# Altium footprint library NSC Switcher.PcbLib: 116 footprints (part 7 of 8)
Each footprint in its own frame and in the unit in brackets; x right, y up, seen from the top. Pads: shape width x height; smd on the part's side, far side on the other; paste and mask are expansions set on the pad; w line width, h text height; cw(c..) or ccw(c..) is an arc to the next point about the centre after c.
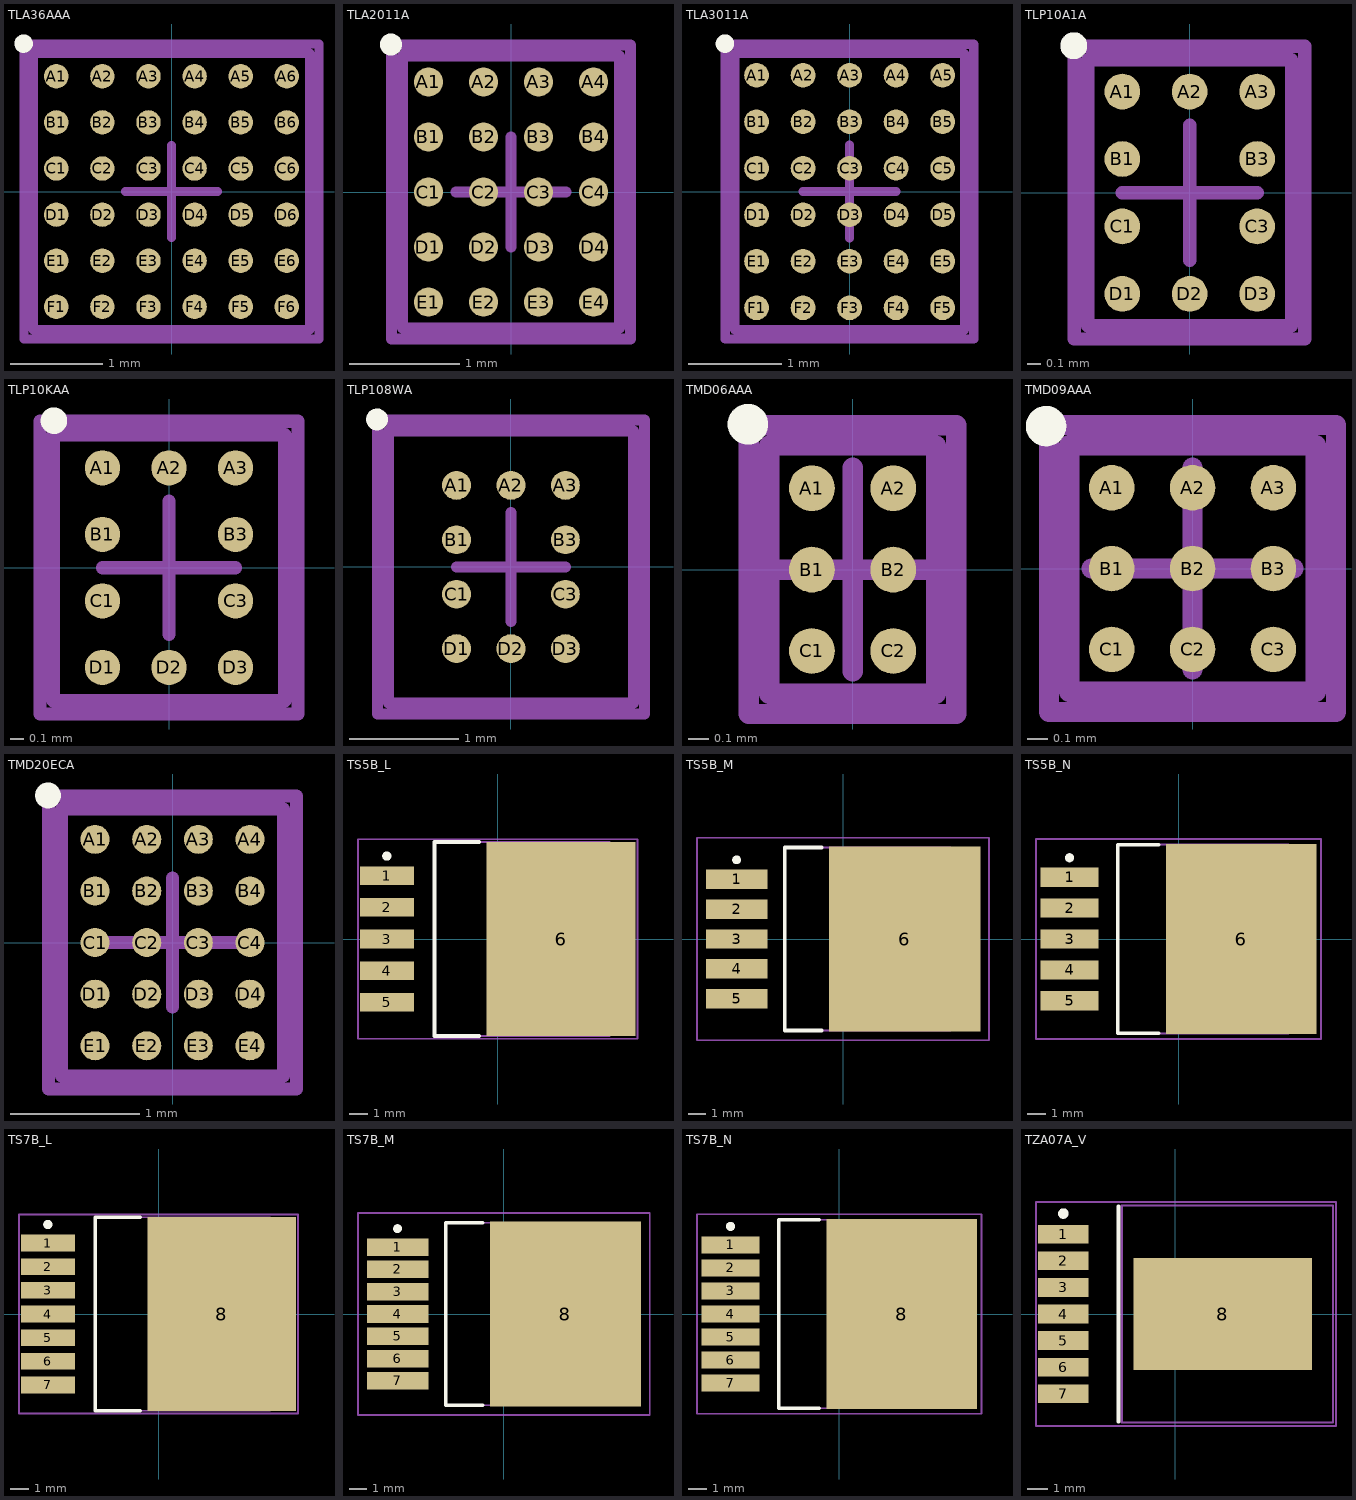
[diagram p6: the footprints below, top view; thin cyan lines are the x and y axes]

## TLA36AAA [mm] "Micro SMD, 36-Leads, Body 3x3mm, Pitch 0.5mm, NSC Recommended"
height 0.68
pads (36):
  round 0.265 smd paste-0.132 mask+0.05: A1(-1.25,1.25) A2(-0.75,1.25) A3(-0.25,1.25) A4(0.25,1.25) A5(0.75,1.25) A6(1.25,1.25) B1(-1.25,0.75) B2(-0.75,0.75) B3(-0.25,0.75) B4(0.25,0.75) B5(0.75,0.75) B6(1.25,0.75) C1(-1.25,0.25) C2(-0.75,0.25) C3(-0.25,0.25) C4(0.25,0.25) C5(0.75,0.25) C6(1.25,0.25) D1(-1.25,-0.25) D2(-0.75,-0.25) D3(-0.25,-0.25) D4(0.25,-0.25) D5(0.75,-0.25) D6(1.25,-0.25) E1(-1.25,-0.75) E2(-0.75,-0.75) E3(-0.25,-0.75) E4(0.25,-0.75) E5(0.75,-0.75) E6(1.25,-0.75) F1(-1.25,-1.25) F2(-0.75,-1.25) F3(-0.25,-1.25) F4(0.25,-1.25) F5(0.75,-1.25) F6(1.25,-1.25)
Top Overlay:
  circle w0.1: c-1.605,1.605 r0.05
Top Paste:
  drawing of 324 lines, arcs and shapes, not listed
Mechanical 13:
  lines w0.1: -1.5,-1.5 1.5,-1.5 1.5,1.5 -1.5,1.5 -1.5,-1.5
Mechanical 15:
  lines w0.1: -0.5,0 0.5,0 ; 0,-0.5 0,0.5 ; -1.6,-1.6 1.6,-1.6 1.6,1.6 -1.6,1.6 -1.6,-1.6
3D body: height 0.68, standoff 0, extent -1.499,-1.499 1.499,1.499

## TLA2011A [mm] "Micro SMD, 20-Leads, Body 2.47x1.97mm, Pitch 0.5mm, NSC Recommended"
height 0.68
pads (20):
  round 0.265 smd paste-0.132 mask+0.05: A1(-0.75,1) A2(-0.25,1) A3(0.25,1) A4(0.75,1) B1(-0.75,0.5) B2(-0.25,0.5) B3(0.25,0.5) B4(0.75,0.5) C1(-0.75,0) C2(-0.25,0) C3(0.25,0) C4(0.75,0) D1(-0.75,-0.5) D2(-0.25,-0.5) D3(0.25,-0.5) D4(0.75,-0.5) E1(-0.75,-1) E2(-0.25,-1) E3(0.25,-1) E4(0.75,-1)
Top Overlay:
  circle w0.1: c-1.09,1.34 r0.05
Top Paste:
  drawing of 180 lines, arcs and shapes, not listed
Mechanical 13:
  lines w0.1: -0.985,-1.235 -0.985,1.235 0.985,1.235 0.985,-1.235 -0.985,-1.235
Mechanical 15:
  lines w0.1: -0.5,0 0.5,0 ; 0,-0.5 0,0.5 ; -1.085,-1.335 -1.085,1.335 1.085,1.335 1.085,-1.335 -1.085,-1.335
3D body: height 0.68, standoff 0, extent -0.984,-1.234 0.984,1.234

## TLA3011A [mm] "Micro SMD, 30-Leads, Body 2.97x2.47mm, Pitch 0.5mm, NSC Recommended"
height 0.68
pads (30):
  round 0.265 smd paste-0.132 mask+0.05: A1(-1,1.25) A2(-0.5,1.25) A3(0,1.25) A4(0.5,1.25) A5(1,1.25) B1(-1,0.75) B2(-0.5,0.75) B3(0,0.75) B4(0.5,0.75) B5(1,0.75) C1(-1,0.25) C2(-0.5,0.25) C3(0,0.25) C4(0.5,0.25) C5(1,0.25) D1(-1,-0.25) D2(-0.5,-0.25) D3(0,-0.25) D4(0.5,-0.25) D5(1,-0.25) E1(-1,-0.75) E2(-0.5,-0.75) E3(0,-0.75) E4(0.5,-0.75) E5(1,-0.75) F1(-1,-1.25) F2(-0.5,-1.25) F3(0,-1.25) F4(0.5,-1.25) F5(1,-1.25)
Top Overlay:
  circle w0.1: c-1.34,1.59 r0.05
Top Paste:
  drawing of 270 lines, arcs and shapes, not listed
Mechanical 13:
  lines w0.1: -1.235,-1.485 1.235,-1.485 1.235,1.485 -1.235,1.485 -1.235,-1.485
Mechanical 15:
  lines w0.1: -0.5,0 0.5,0 ; 0,-0.5 0,0.5 ; -1.335,-1.585 1.335,-1.585 1.335,1.585 -1.335,1.585 -1.335,-1.585
3D body: height 0.68, standoff 0, extent -1.235,-1.49 1.235,1.49

## TLP10A1A [mm] "Micro SMD, 10-Leads, Body 1.97x1.51mm, Pitch 0.5mm, NSC Recommended"
height 0.68
pads (10):
  round 0.265 smd paste-0.132 mask+0.05: A1(-0.5,0.75) A2(0,0.75) A3(0.5,0.75) B1(-0.5,0.25) B3(0.5,0.25) C1(-0.5,-0.25) C3(0.5,-0.25) D1(-0.5,-0.75) D2(0,-0.75) D3(0.5,-0.75)
Top Overlay:
  circle w0.1: c-0.86,1.09 r0.05
Top Paste:
  circle w0.05: c0.45,-0.7 r0.025
  circle w0.05: c0.6,-0.85 r0.025
  circle w0.05: c0.6,-0.7 r0.025
  circle w0.05: c0.45,-0.85 r0.025
  circle w0.05: c-0.075,-0.7 r0.025
  circle w0.05: c0.075,-0.85 r0.025
  circle w0.05: c0.075,-0.7 r0.025
  circle w0.05: c-0.075,-0.85 r0.025
  circle w0.05: c-0.6,-0.7 r0.025
  circle w0.05: c-0.45,-0.85 r0.025
  circle w0.05: c-0.45,-0.7 r0.025
  circle w0.05: c-0.6,-0.85 r0.025
  circle w0.05: c0.45,-0.175 r0.025
  circle w0.05: c0.6,-0.325 r0.025
  circle w0.05: c0.6,-0.175 r0.025
  circle w0.05: c0.45,-0.325 r0.025
  circle w0.05: c-0.6,-0.175 r0.025
  circle w0.05: c-0.45,-0.325 r0.025
  circle w0.05: c-0.45,-0.175 r0.025
  circle w0.05: c-0.6,-0.325 r0.025
  circle w0.05: c0.45,0.325 r0.025
  circle w0.05: c0.6,0.175 r0.025
  circle w0.05: c0.6,0.325 r0.025
  circle w0.05: c0.45,0.175 r0.025
  circle w0.05: c-0.6,0.325 r0.025
  circle w0.05: c-0.45,0.175 r0.025
  circle w0.05: c-0.45,0.325 r0.025
  circle w0.05: c-0.6,0.175 r0.025
  circle w0.05: c0.45,0.85 r0.025
  circle w0.05: c0.6,0.7 r0.025
  circle w0.05: c0.6,0.85 r0.025
  circle w0.05: c0.45,0.7 r0.025
  circle w0.05: c-0.075,0.85 r0.025
  circle w0.05: c0.075,0.7 r0.025
  circle w0.05: c0.075,0.85 r0.025
  circle w0.05: c-0.075,0.7 r0.025
  circle w0.05: c-0.6,0.85 r0.025
  circle w0.05: c-0.45,0.7 r0.025
  circle w0.05: c-0.45,0.85 r0.025
  circle w0.05: c-0.6,0.7 r0.025
  region: 0.6,-0.85 0.45,-0.85 0.45,-0.9 0.6,-0.9
  region: 0.6,-0.7 0.6,-0.85 0.65,-0.85 0.65,-0.7
  rectangle: 0.45,-0.7 0.6,-0.65
  region: 0.45,-0.85 0.45,-0.7 0.4,-0.7 0.4,-0.85
  region: 0.45,-0.7 0.45,-0.85 0.6,-0.85 0.6,-0.7
  region: 0.075,-0.85 -0.075,-0.85 -0.075,-0.9 0.075,-0.9
  region: 0.075,-0.7 0.075,-0.85 0.125,-0.85 0.125,-0.7
  rectangle: -0.075,-0.7 0.075,-0.65
  region: -0.075,-0.85 -0.075,-0.7 -0.125,-0.7 -0.125,-0.85
  region: -0.075,-0.7 -0.075,-0.85 0.075,-0.85 0.075,-0.7
  region: -0.45,-0.85 -0.6,-0.85 -0.6,-0.9 -0.45,-0.9
  region: -0.45,-0.7 -0.45,-0.85 -0.4,-0.85 -0.4,-0.7
  rectangle: -0.6,-0.7 -0.45,-0.65
  region: -0.6,-0.85 -0.6,-0.7 -0.65,-0.7 -0.65,-0.85
  region: -0.6,-0.7 -0.6,-0.85 -0.45,-0.85 -0.45,-0.7
  region: 0.6,-0.325 0.45,-0.325 0.45,-0.375 0.6,-0.375
  region: 0.6,-0.175 0.6,-0.325 0.65,-0.325 0.65,-0.175
  rectangle: 0.45,-0.175 0.6,-0.125
  region: 0.45,-0.325 0.45,-0.175 0.4,-0.175 0.4,-0.325
  region: 0.45,-0.175 0.45,-0.325 0.6,-0.325 0.6,-0.175
  region: -0.45,-0.325 -0.6,-0.325 -0.6,-0.375 -0.45,-0.375
  region: -0.45,-0.175 -0.45,-0.325 -0.4,-0.325 -0.4,-0.175
  rectangle: -0.6,-0.175 -0.45,-0.125
  region: -0.6,-0.325 -0.6,-0.175 -0.65,-0.175 -0.65,-0.325
  region: -0.6,-0.175 -0.6,-0.325 -0.45,-0.325 -0.45,-0.175
  region: 0.6,0.175 0.45,0.175 0.45,0.125 0.6,0.125
  region: 0.6,0.325 0.6,0.175 0.65,0.175 0.65,0.325
  rectangle: 0.45,0.325 0.6,0.375
  region: 0.45,0.175 0.45,0.325 0.4,0.325 0.4,0.175
  region: 0.45,0.325 0.45,0.175 0.6,0.175 0.6,0.325
  region: -0.45,0.175 -0.6,0.175 -0.6,0.125 -0.45,0.125
  region: -0.45,0.325 -0.45,0.175 -0.4,0.175 -0.4,0.325
  rectangle: -0.6,0.325 -0.45,0.375
  region: -0.6,0.175 -0.6,0.325 -0.65,0.325 -0.65,0.175
  region: -0.6,0.325 -0.6,0.175 -0.45,0.175 -0.45,0.325
  region: 0.6,0.7 0.45,0.7 0.45,0.65 0.6,0.65
  region: 0.6,0.85 0.6,0.7 0.65,0.7 0.65,0.85
  rectangle: 0.45,0.85 0.6,0.9
  region: 0.45,0.7 0.45,0.85 0.4,0.85 0.4,0.7
  region: 0.45,0.85 0.45,0.7 0.6,0.7 0.6,0.85
  region: 0.075,0.7 -0.075,0.7 -0.075,0.65 0.075,0.65
  region: 0.075,0.85 0.075,0.7 0.125,0.7 0.125,0.85
  rectangle: -0.075,0.85 0.075,0.9
  region: -0.075,0.7 -0.075,0.85 -0.125,0.85 -0.125,0.7
  region: -0.075,0.85 -0.075,0.7 0.075,0.7 0.075,0.85
  region: -0.45,0.7 -0.6,0.7 -0.6,0.65 -0.45,0.65
  region: -0.45,0.85 -0.45,0.7 -0.4,0.7 -0.4,0.85
  rectangle: -0.6,0.85 -0.45,0.9
  region: -0.6,0.7 -0.6,0.85 -0.65,0.85 -0.65,0.7
  region: -0.6,0.85 -0.6,0.7 -0.45,0.7 -0.45,0.85
Mechanical 13:
  lines w0.1: -0.755,-0.985 0.755,-0.985 0.755,0.985 -0.755,0.985 -0.755,-0.985
Mechanical 15:
  lines w0.1: -0.5,0 0.5,0 ; 0,-0.5 0,0.5 ; -0.855,-1.085 0.855,-1.085 0.855,1.085 -0.855,1.085 -0.855,-1.085
3D body: height 0.68, standoff 0, extent -0.76,-0.985 0.76,0.985

## TLP10KAA [mm] "Micro SMD, 10-Leads, Body 2x1.74mm, Pitch 0.5mm, NSC Recommended"
height 0.68
pads (10):
  round 0.265 smd paste-0.132 mask+0.05: A1(-0.5,0.75) A2(0,0.75) A3(0.5,0.75) B1(-0.5,0.25) B3(0.5,0.25) C1(-0.5,-0.25) C3(0.5,-0.25) D1(-0.5,-0.75) D2(0,-0.75) D3(0.5,-0.75)
Top Overlay:
  circle w0.1: c-0.865,1.105 r0.05
Top Paste:
  circle w0.05: c-0.6,0.7 r0.025
  circle w0.05: c-0.45,0.85 r0.025
  circle w0.05: c-0.6,0.85 r0.025
  circle w0.05: c-0.45,0.7 r0.025
  circle w0.05: c0.45,0.85 r0.025
  circle w0.05: c0.6,0.7 r0.025
  circle w0.05: c0.6,0.85 r0.025
  circle w0.05: c0.45,0.7 r0.025
  circle w0.05: c0.6,-0.7 r0.025
  circle w0.05: c0.45,-0.85 r0.025
  circle w0.05: c0.6,-0.85 r0.025
  circle w0.05: c0.45,-0.7 r0.025
  circle w0.05: c-0.45,-0.85 r0.025
  circle w0.05: c-0.6,-0.7 r0.025
  circle w0.05: c-0.6,-0.85 r0.025
  circle w0.05: c-0.45,-0.7 r0.025
  circle w0.05: c-0.075,0.7 r0.025
  circle w0.05: c0.075,0.85 r0.025
  circle w0.05: c0.075,0.7 r0.025
  circle w0.05: c-0.075,0.85 r0.025
  circle w0.05: c-0.45,0.175 r0.025
  circle w0.05: c-0.6,0.325 r0.025
  circle w0.05: c-0.45,0.325 r0.025
  circle w0.05: c-0.6,0.175 r0.025
  circle w0.05: c-0.45,-0.325 r0.025
  circle w0.05: c-0.6,-0.175 r0.025
  circle w0.05: c-0.45,-0.175 r0.025
  circle w0.05: c-0.6,-0.325 r0.025
  circle w0.05: c0.075,-0.7 r0.025
  circle w0.05: c-0.075,-0.85 r0.025
  circle w0.05: c-0.075,-0.7 r0.025
  circle w0.05: c0.075,-0.85 r0.025
  circle w0.05: c0.45,-0.175 r0.025
  circle w0.05: c0.6,-0.325 r0.025
  circle w0.05: c0.45,-0.325 r0.025
  circle w0.05: c0.6,-0.175 r0.025
  circle w0.05: c0.45,0.325 r0.025
  circle w0.05: c0.6,0.175 r0.025
  circle w0.05: c0.45,0.175 r0.025
  circle w0.05: c0.6,0.325 r0.025
  region: -0.45,0.85 -0.45,0.7 -0.4,0.7 -0.4,0.85
  rectangle: -0.6,0.85 -0.45,0.9
  region: -0.6,0.7 -0.6,0.85 -0.65,0.85 -0.65,0.7
  region: -0.45,0.7 -0.6,0.7 -0.6,0.65 -0.45,0.65
  rectangle: -0.6,0.7 -0.45,0.85
  region: 0.6,0.7 0.45,0.7 0.45,0.65 0.6,0.65
  region: 0.6,0.85 0.6,0.7 0.65,0.7 0.65,0.85
  rectangle: 0.45,0.85 0.6,0.9
  region: 0.45,0.7 0.45,0.85 0.4,0.85 0.4,0.7
  region: 0.45,0.85 0.45,0.7 0.6,0.7 0.6,0.85
  region: 0.45,-0.85 0.45,-0.7 0.4,-0.7 0.4,-0.85
  region: 0.6,-0.85 0.45,-0.85 0.45,-0.9 0.6,-0.9
  region: 0.6,-0.7 0.6,-0.85 0.65,-0.85 0.65,-0.7
  rectangle: 0.45,-0.7 0.6,-0.65
  region: 0.6,-0.7 0.45,-0.7 0.45,-0.85 0.6,-0.85
  rectangle: -0.6,-0.7 -0.45,-0.65
  region: -0.6,-0.85 -0.6,-0.7 -0.65,-0.7 -0.65,-0.85
  region: -0.45,-0.85 -0.6,-0.85 -0.6,-0.9 -0.45,-0.9
  region: -0.45,-0.7 -0.45,-0.85 -0.4,-0.85 -0.4,-0.7
  region: -0.45,-0.85 -0.45,-0.7 -0.6,-0.7 -0.6,-0.85
  region: -0.075,0.85 -0.075,0.7 0.075,0.7 0.075,0.85
  region: -0.075,0.7 -0.075,0.85 -0.125,0.85 -0.125,0.7
  rectangle: -0.075,0.85 0.075,0.9
  region: 0.075,0.85 0.075,0.7 0.125,0.7 0.125,0.85
  region: 0.075,0.7 -0.075,0.7 -0.075,0.65 0.075,0.65
  rectangle: -0.6,0.175 -0.45,0.325
  region: -0.45,0.175 -0.6,0.175 -0.6,0.125 -0.45,0.125
  region: -0.6,0.175 -0.6,0.325 -0.65,0.325 -0.65,0.175
  rectangle: -0.6,0.325 -0.45,0.375
  region: -0.45,0.325 -0.45,0.175 -0.4,0.175 -0.4,0.325
  rectangle: -0.6,-0.325 -0.45,-0.175
  region: -0.45,-0.325 -0.6,-0.325 -0.6,-0.375 -0.45,-0.375
  region: -0.6,-0.325 -0.6,-0.175 -0.65,-0.175 -0.65,-0.325
  rectangle: -0.6,-0.175 -0.45,-0.125
  region: -0.45,-0.175 -0.45,-0.325 -0.4,-0.325 -0.4,-0.175
  region: 0.075,-0.85 0.075,-0.7 -0.075,-0.7 -0.075,-0.85
  region: 0.075,-0.7 0.075,-0.85 0.125,-0.85 0.125,-0.7
  region: 0.075,-0.85 -0.075,-0.85 -0.075,-0.9 0.075,-0.9
  region: -0.075,-0.85 -0.075,-0.7 -0.125,-0.7 -0.125,-0.85
  rectangle: -0.075,-0.7 0.075,-0.65
  region: 0.6,-0.175 0.45,-0.175 0.45,-0.325 0.6,-0.325
  rectangle: 0.45,-0.175 0.6,-0.125
  region: 0.6,-0.175 0.6,-0.325 0.65,-0.325 0.65,-0.175
  region: 0.6,-0.325 0.45,-0.325 0.45,-0.375 0.6,-0.375
  region: 0.45,-0.325 0.45,-0.175 0.4,-0.175 0.4,-0.325
  region: 0.6,0.325 0.45,0.325 0.45,0.175 0.6,0.175
  rectangle: 0.45,0.325 0.6,0.375
  region: 0.6,0.325 0.6,0.175 0.65,0.175 0.65,0.325
  region: 0.6,0.175 0.45,0.175 0.45,0.125 0.6,0.125
  region: 0.45,0.175 0.45,0.325 0.4,0.325 0.4,0.175
Mechanical 13:
  lines w0.1: -0.87,-1 -0.87,1 0.87,1 0.87,-1 -0.87,-1
Mechanical 15:
  lines w0.1: -0.5,0 0.5,0 ; 0,-0.5 0,0.5 ; -0.97,-1.1 -0.97,1.1 0.97,1.1 0.97,-1.1 -0.97,-1.1
3D body: height 0.68, standoff 0, extent -0.759,-0.999 0.759,0.999

## TLP108WA [mm] "Micro SMD, 10-Leads, Body 2.5x2.25mm, Pitch 0.5mm, NSC Recommended"
height 0.68
pads (10):
  round 0.265 smd paste-0.132 mask+0.05: A1(-0.5,0.75) A2(0,0.75) A3(0.5,0.75) B1(-0.5,0.25) B3(0.5,0.25) C1(-0.5,-0.25) C3(0.5,-0.25) D1(-0.5,-0.75) D2(0,-0.75) D3(0.5,-0.75)
Top Overlay:
  circle w0.1: c-1.23,1.355 r0.05
Top Paste:
  circle w0.05: c0.45,-0.7 r0.025
  circle w0.05: c0.6,-0.85 r0.025
  circle w0.05: c0.6,-0.7 r0.025
  circle w0.05: c0.45,-0.85 r0.025
  circle w0.05: c-0.075,-0.7 r0.025
  circle w0.05: c0.075,-0.85 r0.025
  circle w0.05: c0.075,-0.7 r0.025
  circle w0.05: c-0.075,-0.85 r0.025
  circle w0.05: c-0.6,-0.7 r0.025
  circle w0.05: c-0.45,-0.85 r0.025
  circle w0.05: c-0.45,-0.7 r0.025
  circle w0.05: c-0.6,-0.85 r0.025
  circle w0.05: c0.45,-0.175 r0.025
  circle w0.05: c0.6,-0.325 r0.025
  circle w0.05: c0.6,-0.175 r0.025
  circle w0.05: c0.45,-0.325 r0.025
  circle w0.05: c-0.6,-0.175 r0.025
  circle w0.05: c-0.45,-0.325 r0.025
  circle w0.05: c-0.45,-0.175 r0.025
  circle w0.05: c-0.6,-0.325 r0.025
  circle w0.05: c0.45,0.325 r0.025
  circle w0.05: c0.6,0.175 r0.025
  circle w0.05: c0.6,0.325 r0.025
  circle w0.05: c0.45,0.175 r0.025
  circle w0.05: c-0.6,0.325 r0.025
  circle w0.05: c-0.45,0.175 r0.025
  circle w0.05: c-0.45,0.325 r0.025
  circle w0.05: c-0.6,0.175 r0.025
  circle w0.05: c0.45,0.85 r0.025
  circle w0.05: c0.6,0.7 r0.025
  circle w0.05: c0.6,0.85 r0.025
  circle w0.05: c0.45,0.7 r0.025
  circle w0.05: c-0.075,0.85 r0.025
  circle w0.05: c0.075,0.7 r0.025
  circle w0.05: c0.075,0.85 r0.025
  circle w0.05: c-0.075,0.7 r0.025
  circle w0.05: c-0.6,0.85 r0.025
  circle w0.05: c-0.45,0.7 r0.025
  circle w0.05: c-0.45,0.85 r0.025
  circle w0.05: c-0.6,0.7 r0.025
  region: 0.6,-0.85 0.45,-0.85 0.45,-0.9 0.6,-0.9
  region: 0.6,-0.7 0.6,-0.85 0.65,-0.85 0.65,-0.7
  rectangle: 0.45,-0.7 0.6,-0.65
  region: 0.45,-0.85 0.45,-0.7 0.4,-0.7 0.4,-0.85
  region: 0.45,-0.7 0.45,-0.85 0.6,-0.85 0.6,-0.7
  region: 0.075,-0.85 -0.075,-0.85 -0.075,-0.9 0.075,-0.9
  region: 0.075,-0.7 0.075,-0.85 0.125,-0.85 0.125,-0.7
  rectangle: -0.075,-0.7 0.075,-0.65
  region: -0.075,-0.85 -0.075,-0.7 -0.125,-0.7 -0.125,-0.85
  region: -0.075,-0.7 -0.075,-0.85 0.075,-0.85 0.075,-0.7
  region: -0.45,-0.85 -0.6,-0.85 -0.6,-0.9 -0.45,-0.9
  region: -0.45,-0.7 -0.45,-0.85 -0.4,-0.85 -0.4,-0.7
  rectangle: -0.6,-0.7 -0.45,-0.65
  region: -0.6,-0.85 -0.6,-0.7 -0.65,-0.7 -0.65,-0.85
  region: -0.6,-0.7 -0.6,-0.85 -0.45,-0.85 -0.45,-0.7
  region: 0.6,-0.325 0.45,-0.325 0.45,-0.375 0.6,-0.375
  region: 0.6,-0.175 0.6,-0.325 0.65,-0.325 0.65,-0.175
  rectangle: 0.45,-0.175 0.6,-0.125
  region: 0.45,-0.325 0.45,-0.175 0.4,-0.175 0.4,-0.325
  region: 0.45,-0.175 0.45,-0.325 0.6,-0.325 0.6,-0.175
  region: -0.45,-0.325 -0.6,-0.325 -0.6,-0.375 -0.45,-0.375
  region: -0.45,-0.175 -0.45,-0.325 -0.4,-0.325 -0.4,-0.175
  rectangle: -0.6,-0.175 -0.45,-0.125
  region: -0.6,-0.325 -0.6,-0.175 -0.65,-0.175 -0.65,-0.325
  region: -0.6,-0.175 -0.6,-0.325 -0.45,-0.325 -0.45,-0.175
  region: 0.6,0.175 0.45,0.175 0.45,0.125 0.6,0.125
  region: 0.6,0.325 0.6,0.175 0.65,0.175 0.65,0.325
  rectangle: 0.45,0.325 0.6,0.375
  region: 0.45,0.175 0.45,0.325 0.4,0.325 0.4,0.175
  region: 0.45,0.325 0.45,0.175 0.6,0.175 0.6,0.325
  region: -0.45,0.175 -0.6,0.175 -0.6,0.125 -0.45,0.125
  region: -0.45,0.325 -0.45,0.175 -0.4,0.175 -0.4,0.325
  rectangle: -0.6,0.325 -0.45,0.375
  region: -0.6,0.175 -0.6,0.325 -0.65,0.325 -0.65,0.175
  region: -0.6,0.325 -0.6,0.175 -0.45,0.175 -0.45,0.325
  region: 0.6,0.7 0.45,0.7 0.45,0.65 0.6,0.65
  region: 0.6,0.85 0.6,0.7 0.65,0.7 0.65,0.85
  rectangle: 0.45,0.85 0.6,0.9
  region: 0.45,0.7 0.45,0.85 0.4,0.85 0.4,0.7
  region: 0.45,0.85 0.45,0.7 0.6,0.7 0.6,0.85
  region: 0.075,0.7 -0.075,0.7 -0.075,0.65 0.075,0.65
  region: 0.075,0.85 0.075,0.7 0.125,0.7 0.125,0.85
  rectangle: -0.075,0.85 0.075,0.9
  region: -0.075,0.7 -0.075,0.85 -0.125,0.85 -0.125,0.7
  region: -0.075,0.85 -0.075,0.7 0.075,0.7 0.075,0.85
  region: -0.45,0.7 -0.6,0.7 -0.6,0.65 -0.45,0.65
  region: -0.45,0.85 -0.45,0.7 -0.4,0.7 -0.4,0.85
  rectangle: -0.6,0.85 -0.45,0.9
  region: -0.6,0.7 -0.6,0.85 -0.65,0.85 -0.65,0.7
  region: -0.6,0.85 -0.6,0.7 -0.45,0.7 -0.45,0.85
Mechanical 13:
  lines w0.1: -1.125,-1.25 1.125,-1.25 1.125,1.25 -1.125,1.25 -1.125,-1.25
Mechanical 15:
  lines w0.1: -0.5,0 0.5,0 ; 0,-0.5 0,0.5 ; -1.225,-1.35 1.225,-1.35 1.225,1.35 -1.225,1.35 -1.225,-1.35
3D body: height 0.68, standoff 0, extent -1.125,-1.255 1.125,1.255

## TMD06AAA [mm] "Micro SMD, 6-Leads, Body 1.22x0.82mm, Pitch 0.4mm, NSC Recommended"
height 0.68
pads (6):
  round 0.225 smd paste-0.112 mask+0.05: A1(-0.2,0.4) A2(0.2,0.4) B1(-0.2,0) B2(0.2,0) C1(-0.2,-0.4) C2(0.2,-0.4)
Top Overlay:
  circle w0.1: c-0.515,0.715 r0.05
Top Paste:
  circle w0.05: c-0.15,0.5 r0.025
  circle w0.05: c-0.3,0.35 r0.025
  circle w0.05: c-0.3,0.5 r0.025
  circle w0.05: c-0.15,0.35 r0.025
  circle w0.05: c0.3,0.5 r0.025
  circle w0.05: c0.15,0.35 r0.025
  circle w0.05: c0.15,0.5 r0.025
  circle w0.05: c0.3,0.35 r0.025
  circle w0.05: c-0.15,0.075 r0.025
  circle w0.05: c-0.3,-0.075 r0.025
  circle w0.05: c-0.3,0.075 r0.025
  circle w0.05: c-0.15,-0.075 r0.025
  circle w0.05: c0.3,0.075 r0.025
  circle w0.05: c0.15,-0.075 r0.025
  circle w0.05: c0.15,0.075 r0.025
  circle w0.05: c0.3,-0.075 r0.025
  circle w0.05: c-0.15,-0.35 r0.025
  circle w0.05: c-0.3,-0.5 r0.025
  circle w0.05: c-0.3,-0.35 r0.025
  circle w0.05: c-0.15,-0.5 r0.025
  circle w0.05: c0.3,-0.35 r0.025
  circle w0.05: c0.15,-0.5 r0.025
  circle w0.05: c0.15,-0.35 r0.025
  circle w0.05: c0.3,-0.5 r0.025
  rectangle: -0.3,0.3 -0.15,0.35
  region: -0.35,0.5 -0.35,0.35 -0.3,0.35 -0.3,0.5
  region: -0.15,0.55 -0.3,0.55 -0.3,0.5 -0.15,0.5
  region: -0.1,0.35 -0.1,0.5 -0.15,0.5 -0.15,0.35
  region: -0.3,0.5 -0.3,0.35 -0.15,0.35 -0.15,0.5
  rectangle: 0.15,0.3 0.3,0.35
  region: 0.1,0.5 0.1,0.35 0.15,0.35 0.15,0.5
  region: 0.3,0.55 0.15,0.55 0.15,0.5 0.3,0.5
  region: 0.35,0.35 0.35,0.5 0.3,0.5 0.3,0.35
  region: 0.15,0.5 0.15,0.35 0.3,0.35 0.3,0.5
  rectangle: -0.3,-0.125 -0.15,-0.075
  region: -0.35,0.075 -0.35,-0.075 -0.3,-0.075 -0.3,0.075
  region: -0.15,0.125 -0.3,0.125 -0.3,0.075 -0.15,0.075
  region: -0.1,-0.075 -0.1,0.075 -0.15,0.075 -0.15,-0.075
  region: -0.3,0.075 -0.3,-0.075 -0.15,-0.075 -0.15,0.075
  rectangle: 0.15,-0.125 0.3,-0.075
  region: 0.1,0.075 0.1,-0.075 0.15,-0.075 0.15,0.075
  region: 0.3,0.125 0.15,0.125 0.15,0.075 0.3,0.075
  region: 0.35,-0.075 0.35,0.075 0.3,0.075 0.3,-0.075
  region: 0.15,0.075 0.15,-0.075 0.3,-0.075 0.3,0.075
  rectangle: -0.3,-0.55 -0.15,-0.5
  region: -0.35,-0.35 -0.35,-0.5 -0.3,-0.5 -0.3,-0.35
  region: -0.15,-0.3 -0.3,-0.3 -0.3,-0.35 -0.15,-0.35
  region: -0.1,-0.5 -0.1,-0.35 -0.15,-0.35 -0.15,-0.5
  region: -0.3,-0.35 -0.3,-0.5 -0.15,-0.5 -0.15,-0.35
  rectangle: 0.15,-0.55 0.3,-0.5
  region: 0.1,-0.35 0.1,-0.5 0.15,-0.5 0.15,-0.35
  region: 0.3,-0.3 0.15,-0.3 0.15,-0.35 0.3,-0.35
  region: 0.35,-0.5 0.35,-0.35 0.3,-0.35 0.3,-0.5
  region: 0.15,-0.35 0.15,-0.5 0.3,-0.5 0.3,-0.35
Mechanical 13:
  lines w0.1: -0.41,-0.61 -0.41,0.61 0.41,0.61 0.41,-0.61 -0.41,-0.61
Mechanical 15:
  lines w0.1: -0.5,0 0.5,0 ; 0,-0.5 0,0.5 ; -0.51,-0.71 -0.51,0.71 0.51,0.71 0.51,-0.71 -0.51,-0.71
3D body: height 0.68, standoff 0, extent -0.41,-0.61 0.41,0.61

## TMD09AAA [mm] "Micro SMD, 9-Leads, Body 1.22x1.22mm, Pitch 0.4mm, NSC Recommended"
height 0.68
pads (9):
  round 0.225 smd paste-0.112 mask+0.05: A1(-0.4,0.4) A2(0,0.4) A3(0.4,0.4) B1(-0.4,0) B2(0,0) B3(0.4,0) C1(-0.4,-0.4) C2(0,-0.4) C3(0.4,-0.4)
Top Overlay:
  circle w0.1: c-0.725,0.705 r0.05
Top Paste:
  circle w0.05: c0.35,-0.075 r0.025
  circle w0.05: c0.5,0.075 r0.025
  circle w0.05: c0.35,0.075 r0.025
  circle w0.05: c0.5,-0.075 r0.025
  circle w0.05: c-0.075,-0.35 r0.025
  circle w0.05: c0.075,-0.5 r0.025
  circle w0.05: c0.075,-0.35 r0.025
  circle w0.05: c-0.075,-0.5 r0.025
  circle w0.05: c-0.35,0.075 r0.025
  circle w0.05: c-0.5,-0.075 r0.025
  circle w0.05: c-0.35,-0.075 r0.025
  circle w0.05: c-0.5,0.075 r0.025
  circle w0.05: c0.075,0.35 r0.025
  circle w0.05: c-0.075,0.5 r0.025
  circle w0.05: c-0.075,0.35 r0.025
  circle w0.05: c0.075,0.5 r0.025
  circle w0.05: c-0.35,0.35 r0.025
  circle w0.05: c-0.5,0.5 r0.025
  circle w0.05: c-0.5,0.35 r0.025
  circle w0.05: c-0.35,0.5 r0.025
  circle w0.05: c0.35,0.35 r0.025
  circle w0.05: c0.5,0.5 r0.025
  circle w0.05: c0.5,0.35 r0.025
  circle w0.05: c0.35,0.5 r0.025
  circle w0.05: c0.35,-0.35 r0.025
  circle w0.05: c0.5,-0.5 r0.025
  circle w0.05: c0.5,-0.35 r0.025
  circle w0.05: c0.35,-0.5 r0.025
  circle w0.05: c-0.35,-0.35 r0.025
  circle w0.05: c-0.5,-0.5 r0.025
  circle w0.05: c-0.5,-0.35 r0.025
  circle w0.05: c-0.35,-0.5 r0.025
  circle w0.05: c0.075,0.075 r0.025
  circle w0.05: c-0.075,-0.075 r0.025
  circle w0.05: c-0.075,0.075 r0.025
  circle w0.05: c0.075,-0.075 r0.025
  region: 0.5,0.075 0.35,0.075 0.35,-0.075 0.5,-0.075
  rectangle: 0.35,-0.125 0.5,-0.075
  region: 0.55,-0.075 0.55,0.075 0.5,0.075 0.5,-0.075
  region: 0.5,0.125 0.35,0.125 0.35,0.075 0.5,0.075
  region: 0.3,0.075 0.3,-0.075 0.35,-0.075 0.35,0.075
  region: 0.075,-0.5 0.075,-0.35 -0.075,-0.35 -0.075,-0.5
  region: -0.125,-0.35 -0.125,-0.5 -0.075,-0.5 -0.075,-0.35
  rectangle: -0.075,-0.55 0.075,-0.5
  region: 0.125,-0.5 0.125,-0.35 0.075,-0.35 0.075,-0.5
  region: 0.075,-0.3 -0.075,-0.3 -0.075,-0.35 0.075,-0.35
  rectangle: -0.5,-0.075 -0.35,0.075
  region: -0.35,0.125 -0.5,0.125 -0.5,0.075 -0.35,0.075
  region: -0.55,0.075 -0.55,-0.075 -0.5,-0.075 -0.5,0.075
  rectangle: -0.5,-0.125 -0.35,-0.075
  region: -0.3,-0.075 -0.3,0.075 -0.35,0.075 -0.35,-0.075
  region: -0.075,0.5 -0.075,0.35 0.075,0.35 0.075,0.5
  region: 0.125,0.35 0.125,0.5 0.075,0.5 0.075,0.35
  region: 0.075,0.55 -0.075,0.55 -0.075,0.5 0.075,0.5
  region: -0.125,0.5 -0.125,0.35 -0.075,0.35 -0.075,0.5
  rectangle: -0.075,0.3 0.075,0.35
  region: -0.5,0.5 -0.5,0.35 -0.35,0.35 -0.35,0.5
  region: -0.3,0.35 -0.3,0.5 -0.35,0.5 -0.35,0.35
  region: -0.35,0.55 -0.5,0.55 -0.5,0.5 -0.35,0.5
  region: -0.55,0.5 -0.55,0.35 -0.5,0.35 -0.5,0.5
  rectangle: -0.5,0.3 -0.35,0.35
  region: 0.35,0.5 0.35,0.35 0.5,0.35 0.5,0.5
  region: 0.35,0.35 0.35,0.5 0.3,0.5 0.3,0.35
  rectangle: 0.35,0.5 0.5,0.55
  region: 0.5,0.5 0.5,0.35 0.55,0.35 0.55,0.5
  region: 0.5,0.35 0.35,0.35 0.35,0.3 0.5,0.3
  region: 0.5,-0.5 0.5,-0.35 0.35,-0.35 0.35,-0.5
  region: 0.3,-0.35 0.3,-0.5 0.35,-0.5 0.35,-0.35
  rectangle: 0.35,-0.55 0.5,-0.5
  region: 0.55,-0.5 0.55,-0.35 0.5,-0.35 0.5,-0.5
  region: 0.5,-0.3 0.35,-0.3 0.35,-0.35 0.5,-0.35
  region: -0.35,-0.5 -0.35,-0.35 -0.5,-0.35 -0.5,-0.5
  region: -0.35,-0.35 -0.35,-0.5 -0.3,-0.5 -0.3,-0.35
  region: -0.35,-0.5 -0.5,-0.5 -0.5,-0.55 -0.35,-0.55
  region: -0.5,-0.5 -0.5,-0.35 -0.55,-0.35 -0.55,-0.5
  rectangle: -0.5,-0.35 -0.35,-0.3
  rectangle: -0.075,-0.125 0.075,-0.075
  region: -0.125,0.075 -0.125,-0.075 -0.075,-0.075 -0.075,0.075
  region: 0.075,0.125 -0.075,0.125 -0.075,0.075 0.075,0.075
  region: 0.125,-0.075 0.125,0.075 0.075,0.075 0.075,-0.075
  region: -0.075,0.075 -0.075,-0.075 0.075,-0.075 0.075,0.075
Mechanical 13:
  lines w0.1: -0.61,-0.61 -0.61,0.61 0.61,0.61 0.61,-0.61 -0.61,-0.61
Mechanical 15:
  lines w0.1: -0.5,0 0.5,0 ; 0,-0.5 0,0.5 ; -0.71,-0.71 -0.71,0.71 0.71,0.71 0.71,-0.71 -0.71,-0.71
3D body: height 0.68, standoff 0, extent -0.609,-0.609 0.609,0.609

## TMD20ECA [mm] "Micro SMD, 20-Leads, Body 2.07x1.72mm, Pitch 0.4mm, NSC Recommended"
height 0.68
pads (20):
  round 0.225 smd paste-0.112 mask+0.05: A1(-0.6,0.8) A2(-0.2,0.8) A3(0.2,0.8) A4(0.6,0.8) B1(-0.6,0.4) B2(-0.2,0.4) B3(0.2,0.4) B4(0.6,0.4) C1(-0.6,0) C2(-0.2,0) C3(0.2,0) C4(0.6,0) D1(-0.6,-0.4) D2(-0.2,-0.4) D3(0.2,-0.4) D4(0.6,-0.4) E1(-0.6,-0.8) E2(-0.2,-0.8) E3(0.2,-0.8) E4(0.6,-0.8)
Top Overlay:
  circle w0.1: c-0.965,1.14 r0.05
Top Paste:
  drawing of 180 lines, arcs and shapes, not listed
Mechanical 13:
  lines w0.1: -0.86,-1.035 -0.86,1.035 0.86,1.035 0.86,-1.035 -0.86,-1.035
Mechanical 15:
  lines w0.1: -0.5,0 0.5,0 ; 0,-0.5 0,0.5 ; -0.96,-1.135 -0.96,1.135 0.96,1.135 0.96,-1.135 -0.96,-1.135
3D body: height 0.68, standoff 0, extent -0.86,-1.035 0.86,1.035

## TS5B_L [mm] "D2-PAK, 6-Leads, Body 8.6x10.2mm, Pitch 1.7mm, Lead Span 14.1mm, IPC High Density"
height 4.65
pads (6):
  rect 2.9x1 smd: 1(-5.95,3.4) 2(-5.95,1.7) 3(-5.95,0) 4(-5.95,-1.7) 5(-5.95,-3.4)
  rect 8x10.4 smd: 6(3.4,0)
Top Overlay:
  circle w0.25: c-5.95,4.45 r0.125
  lines w0.2: -1,-5.2 -3.4,-5.2 -3.4,5.2 -1,5.2
Mechanical 13:
  lines w0.1: -3.4,-5.2 -3.4,5.2 6,5.2 6,-5.2 -3.4,-5.2
Mechanical 15:
  lines w0.1: -0.5,0 0.5,0 ; 0,-0.5 0,0.5 ; -7.5,-5.35 -7.5,5.35 7.5,5.35 7.5,-5.35 -7.5,-5.35
3D body: height 4.65, standoff 0, extent -3.4,-5.2 6,5.2

## TS5B_M [mm] "D2-PAK, 6-Leads, Body 8.6x10.2mm, Pitch 1.7mm, Lead Span 14.1mm, IPC Low Density"
height 4.65
pads (6):
  rect 3.5x1.1 smd: 1(-6.05,3.4) 2(-6.05,1.7) 3(-6.05,0) 4(-6.05,-1.7) 5(-6.05,-3.4)
  rect 8.6x10.5 smd: 6(3.5,0)
Top Overlay:
  circle w0.25: c-6.05,4.5 r0.125
  lines w0.2: -1.2,-5.2 -3.3,-5.2 -3.3,5.2 -1.2,5.2
Mechanical 13:
  lines w0.1: -3.3,-5.2 6.1,-5.2 6.1,5.2 -3.3,5.2 -3.3,-5.2
Mechanical 15:
  lines w0.1: -0.5,0 0.5,0 ; 0,-0.5 0,0.5 ; -8.3,-5.75 8.3,-5.75 8.3,5.75 -8.3,5.75 -8.3,-5.75
3D body: height 4.65, standoff 0, extent -3.3,-5.2 6.1,5.2

## TS5B_N [mm] "D2-PAK, 6-Leads, Body 8.6x10.2mm, Pitch 1.7mm, Lead Span 14.1mm, IPC Medium Density"
height 4.65
pads (6):
  rect 3.2x1.05 smd: 1(-6,3.4) 2(-6,1.7) 3(-6,0) 4(-6,-1.7) 5(-6,-3.4)
  rect 8.3x10.45 smd: 6(3.45,0)
Top Overlay:
  circle w0.25: c-6,4.475 r0.125
  lines w0.2: -1.1,-5.2 -3.35,-5.2 -3.35,5.2 -1.1,5.2
Mechanical 13:
  lines w0.1: -3.35,-5.2 6.05,-5.2 6.05,5.2 -3.35,5.2 -3.35,-5.2
Mechanical 15:
  lines w0.1: -0.5,0 0.5,0 ; 0,-0.5 0,0.5 ; -7.85,-5.5 7.85,-5.5 7.85,5.5 -7.85,5.5 -7.85,-5.5
3D body: height 4.65, standoff 0, extent -3.35,-5.2 6.05,5.2

## TS7B_L [mm] "D2-PAK, 8-Leads, Body 8.6x10.2mm, Pitch 1.27mm, Lead Span 14.1mm, IPC High Density"
height 4.64
pads (8):
  rect 2.9x0.9 smd: 1(-5.95,3.81) 2(-5.95,2.54) 3(-5.95,1.27) 4(-5.95,0) 5(-5.95,-1.27) 6(-5.95,-2.54) 7(-5.95,-3.81)
  rect 8x10.45 smd: 8(3.4,0)
Top Overlay:
  circle w0.25: c-5.95,4.81 r0.125
  lines w0.2: -1,-5.2 -3.4,-5.2 -3.4,5.2 -1,5.2
Mechanical 13:
  lines w0.1: -3.4,-5.2 -3.4,5.2 6,5.2 6,-5.2 -3.4,-5.2
Mechanical 15:
  lines w0.1: -0.5,0 0.5,0 ; 0,-0.5 0,0.5 ; -7.5,-5.35 -7.5,5.35 7.5,5.35 7.5,-5.35 -7.5,-5.35
3D body: height 4.64, standoff 0, extent -3.4,-5.2 6,5.2

## TS7B_M [mm] "D2-PAK, 8-Leads, Body 8.6x10.2mm, Pitch 1.27mm, Lead Span 14.1mm, IPC Low Density"
height 4.64
pads (8):
  rect 3.5x1 smd: 1(-6.05,3.81) 2(-6.05,2.54) 3(-6.05,1.27) 4(-6.05,0) 5(-6.05,-1.27) 6(-6.05,-2.54) 7(-6.05,-3.81)
  rect 8.6x10.55 smd: 8(3.5,0)
Top Overlay:
  circle w0.25: c-6.05,4.86 r0.125
  lines w0.2: -1.2,-5.2 -3.3,-5.2 -3.3,5.2 -1.2,5.2
Mechanical 13:
  lines w0.1: -3.3,-5.2 -3.3,5.2 6.1,5.2 6.1,-5.2 -3.3,-5.2
Mechanical 15:
  lines w0.1: -0.5,0 0.5,0 ; 0,-0.5 0,0.5 ; -8.3,-5.75 -8.3,5.75 8.3,5.75 8.3,-5.75 -8.3,-5.75
3D body: height 4.64, standoff 0, extent -3.3,-5.2 6.1,5.2

## TS7B_N [mm] "D2-PAK, 8-Leads, Body 8.6x10.2mm, Pitch 1.27mm, Lead Span 14.1mm, IPC Medium Density"
height 4.64
pads (8):
  rect 3.2x0.95 smd: 1(-6,3.81) 2(-6,2.54) 3(-6,1.27) 4(-6,0) 5(-6,-1.27) 6(-6,-2.54) 7(-6,-3.81)
  rect 8.3x10.5 smd: 8(3.45,0)
Top Overlay:
  circle w0.25: c-6,4.835 r0.125
  lines w0.2: -1.1,-5.2 -3.35,-5.2 -3.35,5.2 -1.1,5.2
Mechanical 13:
  lines w0.1: -3.35,-5.2 -3.35,5.2 6.05,5.2 6.05,-5.2 -3.35,-5.2
Mechanical 15:
  lines w0.1: -0.5,0 0.5,0 ; 0,-0.5 0,0.5 ; -7.85,-5.5 -7.85,5.5 7.85,5.5 7.85,-5.5 -7.85,-5.5
3D body: height 4.64, standoff 0, extent -3.35,-5.2 6.05,5.2

## TZA07A_V [mm] "D2-PAK, 8-Leads, Body 9.9x10.2mm, Pitch 1.27mm, Lead Span 13.8mm, NSC Recommended"
height 4.67
pads (8):
  rect 2.41x0.89 smd: 1(-5.35,3.81) 2(-5.35,2.54) 3(-5.35,1.27) 4(-5.35,0) 5(-5.35,-1.27) 6(-5.35,-2.54) 7(-5.35,-3.81)
  rect 8.54x5.35 smd: 8(2.28,0)
Top Overlay:
  circle w0.25: c-5.35,4.805 r0.125
  lines w0.2: -2.7,-5.15 -2.7,5.15
Mechanical 13:
  lines w0.1: -2.55,-5.2 7.55,-5.2 7.55,5.2 -2.55,5.2 -2.55,-5.2
Mechanical 15:
  lines w0.1: -0.5,0 0.5,0 ; 0,-0.5 0,0.5 ; -6.655,-5.35 7.7,-5.35 7.7,5.35 -6.655,5.35 -6.655,-5.35
3D body: height 4.67, standoff 0, extent -2.55,-5.2 7.55,5.2